# EAGLE library part MDSSV-BD07 (library con-yamaichi)
YAMAICHI CONNECTOR
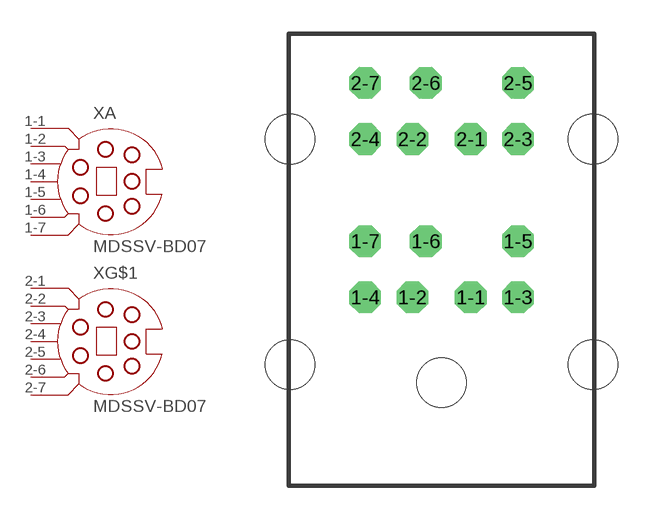
[diagram p4: symbol with the pads of SSV-BD07; footprint SSV-BD07]

Designator prefix X; gates A=SSV-BC07 G$1=SSV-BC07

## MDSSV-BD07 (OC_FARNELL: unknown; OC_NEWARK: unknown)  [SSV-BD07]
1-1  A:1  pas
1-2  A:2  pas
1-3  A:3  pas
1-4  A:4  pas
1-5  A:5  pas
1-6  A:6  pas
1-7  A:7  pas
2-1  G$1:1  pas
2-2  G$1:2  pas
2-3  G$1:3  pas
2-4  G$1:4  pas
2-5  G$1:5  pas
2-6  G$1:6  pas
2-7  G$1:7  pas

## Footprint SSV-BD07 (pad centres in mm)
Mini Din YAMAICHI CONNECTOR
drill 0.9 octagon: 1-1 1.3,8.5; 1-2 -1.3,8.5; 1-3 3.4,8.5; 1-4 -3.4,8.5; 1-5 3.4,11; 1-6 -0.7,11; 1-7 -3.4,11; 2-1 1.3,15.55; 2-2 -1.3,15.55; 2-3 3.4,15.55; 2-4 -3.4,15.55; 2-5 3.4,18.05; 2-6 -0.7,18.05; 2-7 -3.4,18.05
hole 2.2 at -6.75,5.5
hole 2.2 at 0,4.7
hole 2.2 at 6.75,5.5
hole 2.2 at -6.75,15.55
hole 2.2 at 6.75,15.55